# Altium footprint library LTST-C170GKT.PcbLib: 1 footprints
Each footprint in its own frame and in the unit in brackets; x right, y up, seen from the top. Pads: shape width x height; smd on the part's side, far side on the other; paste and mask are expansions set on the pad; w line width, h text height; cw(c..) or ccw(c..) is an arc to the next point about the centre after c.
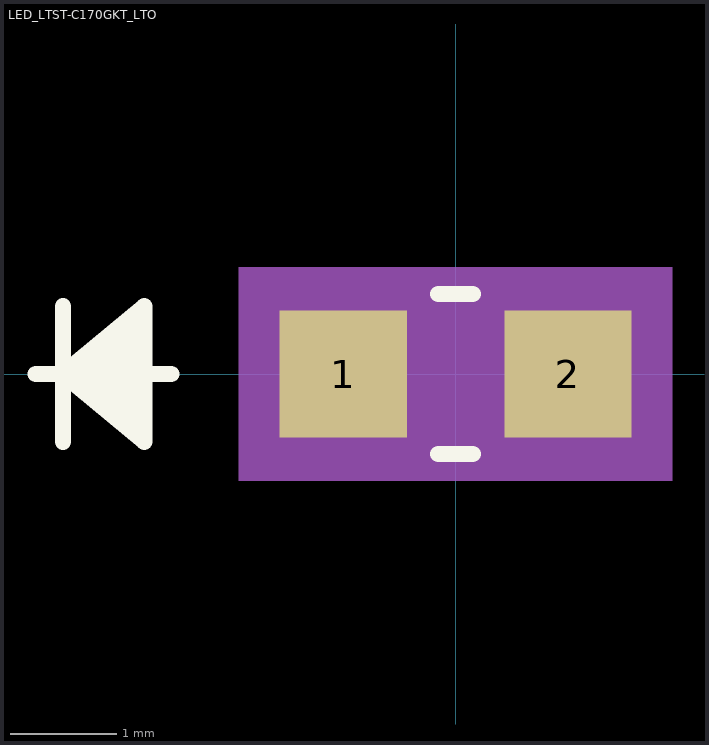
[diagram p0: the footprint, top view; thin cyan lines are the x and y axes]

## LED_LTST-C170GKT_LTO [mil]
pads (2):
  rect 47x47 smd paste+0 mask+0: 1(-41.5,0) 2(41.5,0)
Top Overlay:
  lines w6: -155,0 -105,0 ; -145,-25 -145,25 ; -115,-20 -145,0 ; -115,-15 -145,0 ; -115,-10 -145,0 ; -115,-5 -145,0 ; -115,5 -145,0 ; -115,10 -145,0 ; -115,15 -145,0 ; -115,20 -145,0 ; -6.35,-29.5 6.35,-29.5 ; -6.35,29.5 6.35,29.5 ; -145,0 -115,25 -115,-25 -145,0
Mechanical 5:
  region: 80,-39.5 -80,-39.5 -80,39.5 80,39.5
Mechanical 13:
  lines w1: -155,0 -105,0 ; -145,-25 -145,25 ; -115,-20 -145,0 ; -115,-15 -145,0 ; -115,-10 -145,0 ; -115,-5 -145,0 ; -115,5 -145,0 ; -115,10 -145,0 ; -115,15 -145,0 ; -115,20 -145,0 ; -145,0 -115,25 -115,-25 -145,0 ; -39.5,-24.5 39.5,-24.5 39.5,24.5 -39.5,24.5 -39.5,-24.5
Mechanical 15:
  region: -49.5,-33.5 -75,-33.5 -75,33.5 -49.5,33.5 -49.5,34.5 49.5,34.5 49.5,33.5 75,33.5 75,-33.5 49.5,-33.5 49.5,-34.5 -49.5,-34.5
  lines w6: -75,-33.5 -75,33.5 -49.5,33.5 -49.5,34.5 49.5,34.5 49.5,33.5 75,33.5 75,-33.5 49.5,-33.5 49.5,-34.5 -49.5,-34.5 -49.5,-33.5 -75,-33.5
3D body "LED_LTST-C170GKT_LTO.step": height 42.99, standoff 0, extent -39.49,-24.61 39.49,24.61